# EAGLE library part DB9_CONN (library eko-parts)
http://www.farnell.com/datasheets/320017.pdf http://onecall.farnell.com/multicomp/8lcm009p-301b-xx/plug-d-pcb-r-a-9way/dp/1099289
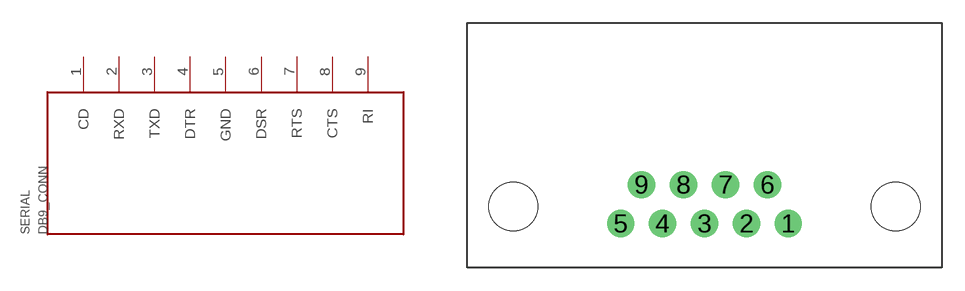
[diagram p7: symbol with the pads of DB9; footprint DB9]

Designator prefix SERIAL

## DB9_CONN  [DB9]
1  CD  in
2  RXD  in
3  TXD  out
4  DTR  pas
5  GND
6  DSR  in
7  RTS  out
8  CTS  in
9  RI  in

## Footprint DB9 (pad centres in mm)
drill 1.19: 1 5.48,-1.12; 2 2.74,-1.12; 3 0,-1.12; 4 -2.74,-1.12; 5 -5.48,-1.12; 6 4.11,1.42; 7 1.37,1.42; 8 -1.37,1.42; 9 -4.11,1.42
hole 3.2 at -12.5,0
hole 3.2 at 12.5,0